# EAGLE library part UPD5713 (library microbuilder)
UPD5713TK - Wide Band SPDT Switch (50MHz-2.5GHz) Digikey: UPD5713TK-E2-ACT-ND Mouser: 551-UPD5713TK-A
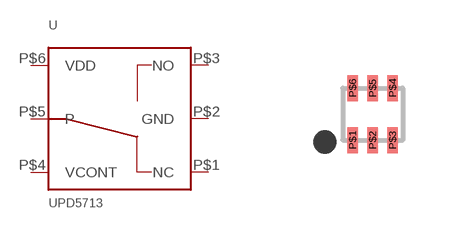
[diagram p93: symbol with the pads of MINIMOLD6; footprint MINIMOLD6]

Designator prefix U

## UPD5713  [MINIMOLD6]
P$1  NC
P$2  GND
P$3  NO
P$4  VCONT
P$5  P
P$6  VDD

## Footprint MINIMOLD6 (pad centres in mm)
6-Pin MINIMOLD Leadless Part Reference: http://www.cel.com/pdf/datasheets/upd5713tk.pdf
smd 0.26 x 0.65: P$1 -0.5,-0.65; P$2 0,-0.65; P$3 0.5,-0.65; P$4 0.5,0.65; P$5 0,0.65; P$6 -0.5,0.65